# Altium footprint library HP48GX1.PcbLib: 21 footprints (part 2 of 2)
Each footprint in its own frame and in the unit in brackets; x right, y up, seen from the top. Pads: shape width x height; smd on the part's side, far side on the other; paste and mask are expansions set on the pad; w line width, h text height; cw(c..) or ccw(c..) is an arc to the next point about the centre after c.
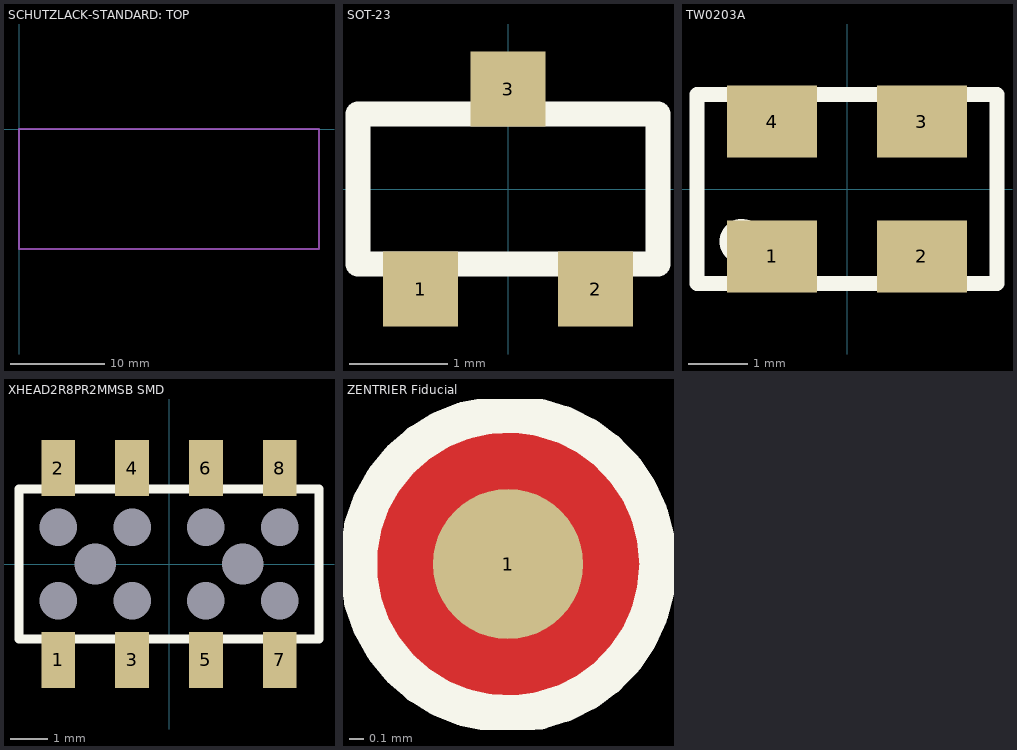
[diagram p1: the footprints below, top view; thin cyan lines are the x and y axes]

## SCHUTZLACK-STANDARD: TOP [mm]
Mechanical 16:
  lines w0.254: 0,-12.7 0,0 31.75,0 31.75,-12.7 0,-12.7
Mechanical 19:
  text "default, transparent," at 1.27,-7.62 h2.03
  text "Coating Top:" at 1.27,-3.81 h2.03
  text "fluorescent" at 1.27,-11.43 h2.03

## SOT-23 [mil]
pads (3):
  rect 30x30 smd: 1(-35,-40) 2(35,-40) 3(0,40)
Top Overlay:
  lines w10: -35,-45 -35,-30 ; 0,30 0,45 ; 35,-45 35,-30 ; -60,-30 60,-30 60,30 -60,30 -60,-30
3D body "SOT-23.stp": height 39.37, standoff 0, extent -57.08,-47.25 57.09,47.24

## TW0203A [mil]
height 51
pads (4):
  rect 60x48 smd: 1(-50,-45) 2(50,-45) 3(50,45) 4(-50,45)
Top Overlay:
  circle w10: c-70,-35 r10
  lines w10: -100,-63 -100,63 100,63 100,-63 -100,-63
3D body "TW0203A.stp": height 51.18, standoff 0, extent -98.43,-62.99 98.43,62.99

## XHEAD2R8PR2MMSB SMD [mm]
height 2.8
pads (18):
  round 0 hole 1.118 unplated: 0(-2,0) 0(2,0)
  rect 0.914x1.524 smd: 1(-3,-2.6) 2(-3,2.6) 3(-1,-2.6) 4(-1,2.6) 5(1,-2.6) 6(1,2.6) 7(3,-2.6) 8(3,2.6)
  round 0 hole 1.016 unplated: 1a(-3,-1) 2a(-3,1) 3a(-1,-1) 4a(-1,1) 5a(1,-1) 6a(1,1) 7a(3,-1) 8a(3,1)
Top Overlay:
  lines w0.254: -4.064,-2.032 -4.064,2.032 4.064,2.032 4.064,-2.032 -4.064,-2.032
3D body "XHEAD2R8PR2MMSB SMD.stp": height 2.8, standoff -0.6, extent -4,-2.9 4,2.9

## ZENTRIER Fiducial [mil]
pads (1):
  round 40 smd paste+0 mask+20: 1(0,0)
Top Layer:
  pour cut-out: 0,40 3.94,40 11.67,38.46 18.95,35.45 25.5,31.07 31.07,25.5 35.45,18.95 38.46,11.67 40,3.94 40,0 40,-3.94 38.46,-11.67 35.45,-18.95 31.07,-25.5 25.5,-31.07 18.95,-35.45 11.67,-38.46 3.94,-40 0,-40 -3.94,-40 -11.67,-38.46 -18.95,-35.45 -25.5,-31.07 -31.07,-25.5 -35.45,-18.95 -38.46,-11.67 -40,-3.94 -40,0 -40,3.94 -38.46,11.67 -35.45,18.95 -31.07,25.5 -25.5,31.07 -18.95,35.45 -11.67,38.46 -3.94,40
Top Overlay:
  circle w10: c0,0 r40